# EAGLE library part NXT-SOCKET (library NXT Compatible (female) Sockets - Mindsensors)
RJ11 6 connects Manufacturer: Mindsensors.com Source: NXT-Female-Socket.pdf
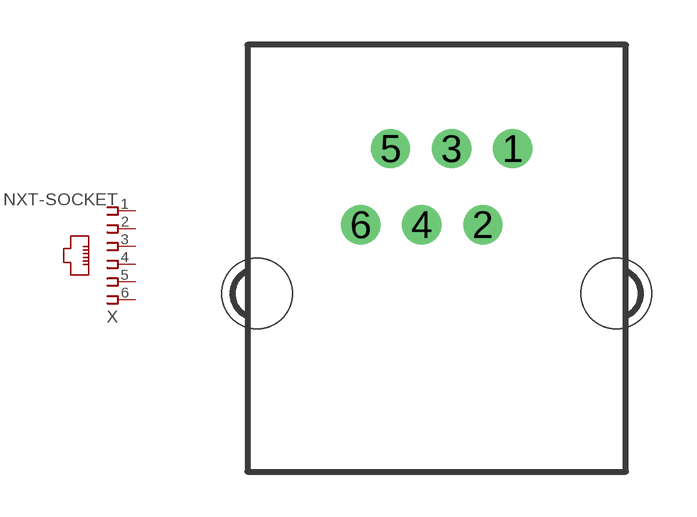
[diagram p0: symbol with the pads of NXT-SOCKET; footprint NXT-SOCKET]

Designator prefix X

## NXT-SOCKET (OC_FARNELL: unknown; OC_NEWARK: unknown)  [NXT-SOCKET]
1  1  pas
2  2  pas
3  3  pas
4  4  pas
5  5  pas
6  6  pas

## Footprint NXT-SOCKET (pad centres in mm)
RJ11 6 connects Manufacturer: Mindsensors.com Source: NXT-Female-Socket.pdf
drill 0.8 pad 1.3 round: 1 2.54,4.84; 2 1.54,2.3; 3 0.5,4.84; 4 -0.5,2.3; 5 -1.54,4.84; 6 -2.54,2.3
hole 2.36 at -6,0
hole 2.36 at 6,0